# Altium schematic symbol library C0603C104K1RACAUTO.SchLib: 1 symbol
Pins are listed as number, name and electrical type; pins without a type are passive.

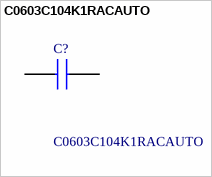
[diagram p0: symbol C0603C104K1RACAUTO]

## C0603C104K1RACAUTO
designator C?
SMD Auto X7R, Ceramic, 0.1 uF, 10%, 100 VDC, X7R, SMD, MLCC, Temperature Stable, Automotive Grade, 0603; Manufacturer_Name: Yageo Group; Geometry.Height: 0.95mm; Mouser Part Number: 80-C0603C104K1RAUTO; Mouser Price/Stock: https://www.mouser.co.uk/ProductDetail/KEMET/C0603C104K1RACAUTO?qs=3Rah4i%252BhyCGTQ5uPNXtfZA%3D%3D; Manufacturer_Part_Number: C0603C104K1RACAUTO; Datasheet Link: https://connect.kemet.com:7667/gateway/IntelliData-ComponentDocumentation/1.0/download/specsheet/C0603C104K1RACAUTO
footprint CAPC1608X95N
pins: 1, 2